# Altium footprint library Connector_PinHeader_1.27mm.PcbLib: 278 footprints (part 11 of 18)
Each footprint in its own frame and in the unit in brackets; x right, y up, seen from the top. Pads: shape width x height; smd on the part's side, far side on the other; paste and mask are expansions set on the pad; w line width, h text height; cw(c..) or ccw(c..) is an arc to the next point about the centre after c.
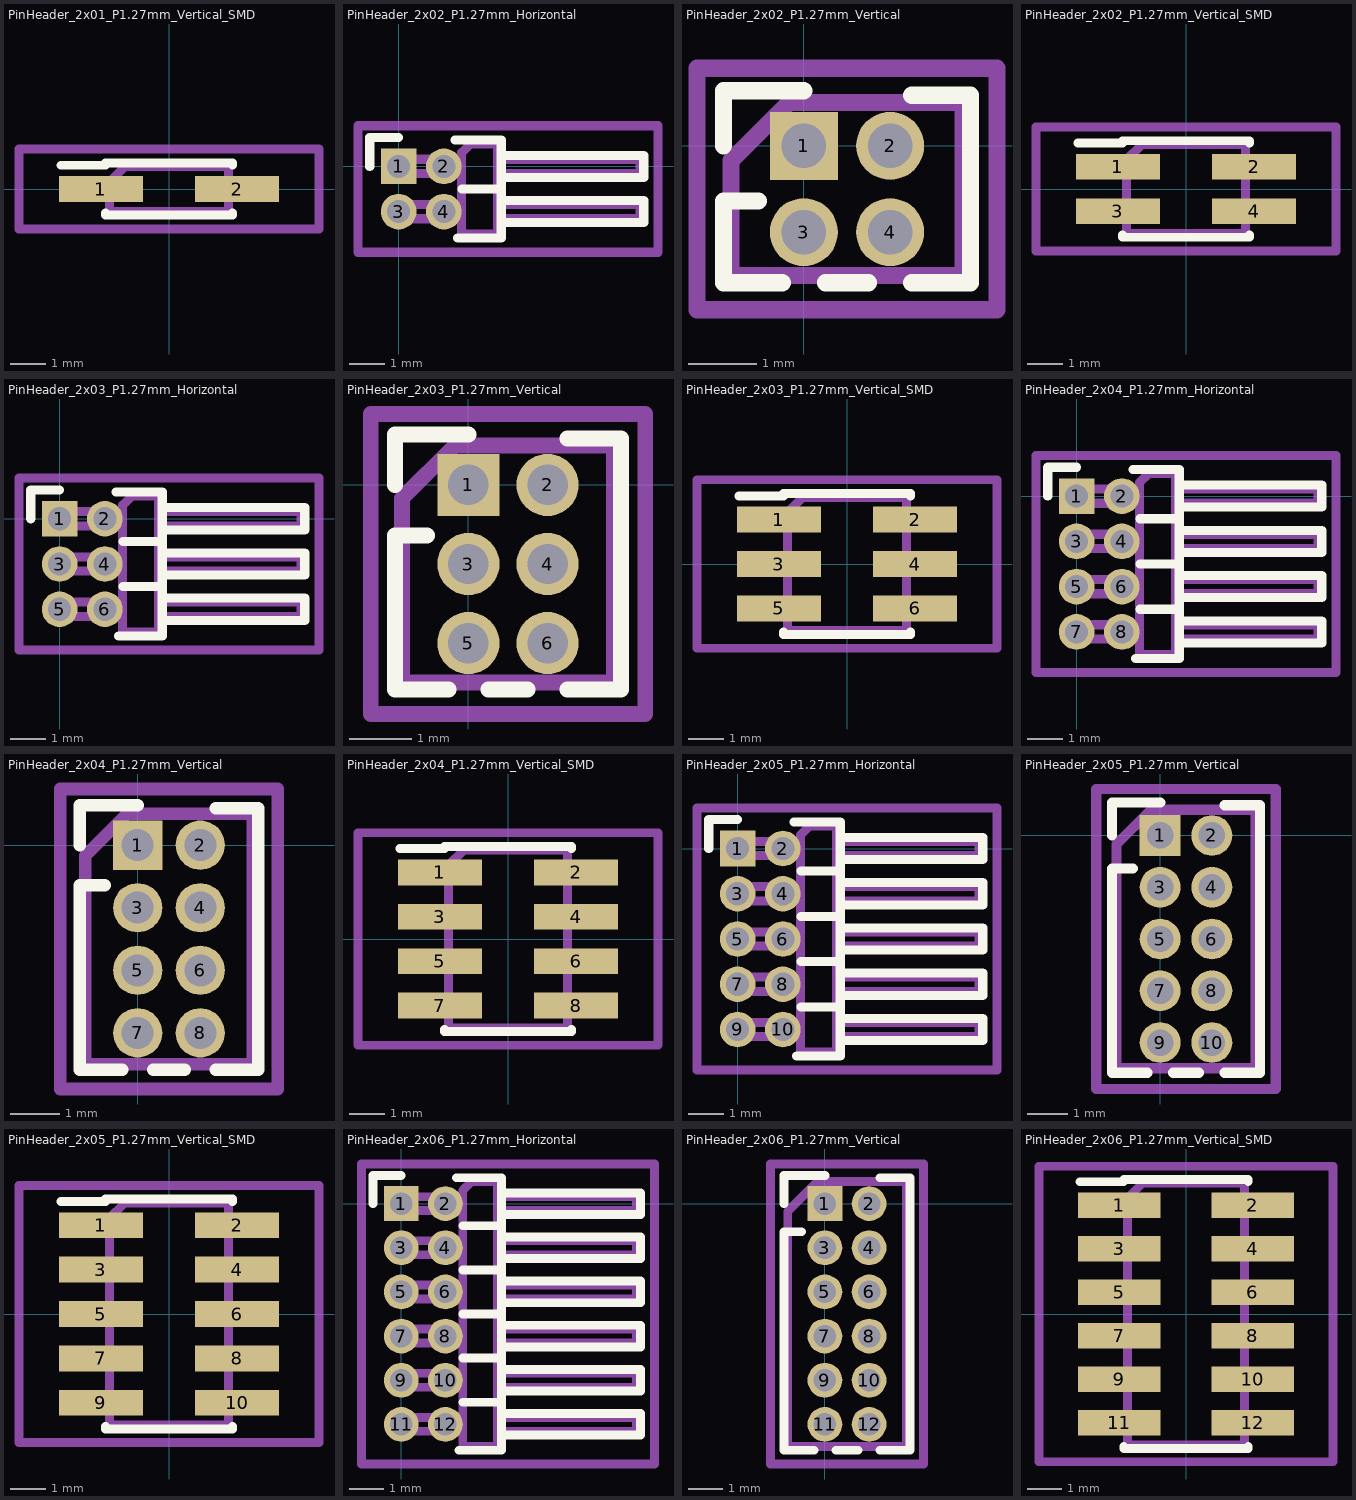
[diagram p10: the footprints below, top view; thin cyan lines are the x and y axes]

## PinHeader_2x01_P1.27mm_Vertical_SMD [mm]
pads (2):
  rect 2.4x0.74 smd: 1(-1.95,0) 2(1.95,0)
F.SilkS:
  lines w0.254: -3.09,0.68 -1.815,0.68 -1.815,0.745 1.815,0.745 1.815,0.68 ; -1.815,-0.68 -1.815,-0.745 1.815,-0.745 1.815,-0.68
Top Assembly:
  lines w0.254: -1.705,-0.2 -2.75,-0.2 -2.75,0.2 -1.705,0.2 ; 1.705,-0.2 2.75,-0.2 2.75,0.2 1.705,0.2 ; -1.705,0.2 -1.705,-0.635 1.705,-0.635 1.705,0.635 -1.27,0.635 -1.705,0.2
  text "'.Designator'" at 0.84,-4.047 h1
Top Courtyard:
  lines w0.254: -4.29,-1.14 4.29,-1.14 4.29,1.14 -4.29,1.14 -4.29,-1.14
Top Designator:
  text ".Designator" at -7.618,-0.658 h1.52

## PinHeader_2x02_P1.27mm_Horizontal [mm]
pads (4):
  rect 1x1 hole 0.65: 1(0,0)
  round 1 hole 0.65: 2(1.27,0) 3(0,-1.27) 4(1.27,-1.27)
F.SilkS:
  lines w0.254: -0.81,0 -0.81,0.81 0,0.81 ; 1.588,0.745 2.88,0.745 2.88,-2.015 1.66,-2.015 ; 1.773,-0.635 2.88,-0.635 ; 2.88,-1.58 6.88,-1.58 6.88,-0.96 2.88,-0.96 ; 2.88,-0.31 6.88,-0.31 6.88,0.31 2.88,0.31 2.88,-0.31
Top Assembly:
  lines w0.254: 1.77,-1.47 -0.2,-1.47 -0.2,-1.07 1.77,-1.07 ; 1.77,-0.2 -0.2,-0.2 -0.2,0.2 1.77,0.2 ; 2.77,-1.47 6.77,-1.47 6.77,-1.07 2.77,-1.07 ; 2.77,-0.2 6.77,-0.2 6.77,0.2 2.77,0.2 ; 1.77,-1.905 2.77,-1.905 2.77,0.635 2.02,0.635 1.77,0.385 1.77,-1.905
  text "'.Designator'" at 2.774,-3.063 h0.6
Top Courtyard:
  lines w0.254: -1.14,-2.41 7.28,-2.41 7.28,1.14 -1.14,1.14 -1.14,-2.41
Top Designator:
  text ".Designator" at -4.548,-1.233 h1.52

## PinHeader_2x02_P1.27mm_Vertical [mm]
pads (4):
  rect 1x1 hole 0.65: 1(0,0)
  round 1 hole 0.65: 2(1.27,0) 3(0,-1.27) 4(1.27,-1.27)
F.SilkS:
  lines w0.254: -1.18,0 -1.18,0.81 0,0.81 ; -0.667,-0.81 -1.18,-0.81 -1.18,-2.015 -0.318,-2.015 ; 0.318,-2.015 0.952,-2.015 ; 1.588,-2.015 2.45,-2.015 2.45,0.745 1.588,0.745
Top Assembly:
  lines w0.254: -1.07,-1.905 2.34,-1.905 2.34,0.635 -0.218,0.635 -1.07,-0.218 -1.07,-1.905
  text "'.Designator'" at 1.475,-4.682 h1
Top Courtyard:
  lines w0.254: -1.57,-2.41 2.84,-2.41 2.84,1.14 -1.57,1.14 -1.57,-2.41
Top Designator:
  text ".Designator" at -6.983,-1.293 h1.52

## PinHeader_2x02_P1.27mm_Vertical_SMD [mm]
pads (4):
  rect 2.4x0.74 smd: 1(-1.95,0.635) 2(1.95,0.635) 3(-1.95,-0.635) 4(1.95,-0.635)
F.SilkS:
  lines w0.254: -3.09,1.315 -1.815,1.315 -1.815,1.38 1.815,1.38 1.815,1.315 ; -1.815,-1.315 -1.815,-1.38 1.815,-1.38 1.815,-1.315
Top Assembly:
  lines w0.254: -1.705,-0.835 -2.75,-0.835 -2.75,-0.435 -1.705,-0.435 ; -1.705,0.435 -2.75,0.435 -2.75,0.835 -1.705,0.835 ; 1.705,-0.835 2.75,-0.835 2.75,-0.435 1.705,-0.435 ; 1.705,0.435 2.75,0.435 2.75,0.835 1.705,0.835 ; -1.705,0.835 -1.705,-1.27 1.705,-1.27 1.705,1.27 -1.27,1.27 -1.705,0.835
  text "'.Designator'" at 0.84,-4.047 h1
Top Courtyard:
  lines w0.254: -4.29,-1.77 4.29,-1.77 4.29,1.77 -4.29,1.77 -4.29,-1.77
Top Designator:
  text ".Designator" at -7.618,-0.658 h1.52

## PinHeader_2x03_P1.27mm_Horizontal [mm]
pads (6):
  rect 1x1 hole 0.65: 1(0,0)
  round 1 hole 0.65: 2(1.27,0) 3(0,-1.27) 4(1.27,-1.27) 5(0,-2.54) 6(1.27,-2.54)
F.SilkS:
  lines w0.254: -0.81,0 -0.81,0.81 0,0.81 ; 1.588,0.745 2.88,0.745 2.88,-3.285 1.66,-3.285 ; 1.773,-1.905 2.88,-1.905 ; 1.773,-0.635 2.88,-0.635 ; 2.88,-2.85 6.88,-2.85 6.88,-2.23 2.88,-2.23 ; 2.88,-1.58 6.88,-1.58 6.88,-0.96 2.88,-0.96 ; 2.88,-0.31 6.88,-0.31 6.88,0.31 2.88,0.31 2.88,-0.31
Top Assembly:
  lines w0.254: 1.77,-2.74 -0.2,-2.74 -0.2,-2.34 1.77,-2.34 ; 1.77,-1.47 -0.2,-1.47 -0.2,-1.07 1.77,-1.07 ; 1.77,-0.2 -0.2,-0.2 -0.2,0.2 1.77,0.2 ; 2.77,-2.74 6.77,-2.74 6.77,-2.34 2.77,-2.34 ; 2.77,-1.47 6.77,-1.47 6.77,-1.07 2.77,-1.07 ; 2.77,-0.2 6.77,-0.2 6.77,0.2 2.77,0.2 ; 1.77,-3.175 2.77,-3.175 2.77,0.635 2.02,0.635 1.77,0.385 1.77,-3.175
  text "'.Designator'" at 2.774,-3.698 h0.6
Top Courtyard:
  lines w0.254: -1.14,-3.68 7.28,-3.68 7.28,1.14 -1.14,1.14 -1.14,-3.68
Top Designator:
  text ".Designator" at -4.548,-1.778 h1.52

## PinHeader_2x03_P1.27mm_Vertical [mm]
pads (6):
  rect 1x1 hole 0.65: 1(0,0)
  round 1 hole 0.65: 2(1.27,0) 3(0,-1.27) 4(1.27,-1.27) 5(0,-2.54) 6(1.27,-2.54)
F.SilkS:
  lines w0.254: -1.18,0 -1.18,0.81 0,0.81 ; -0.667,-0.81 -1.18,-0.81 -1.18,-3.285 -0.318,-3.285 ; 0.318,-3.285 0.952,-3.285 ; 1.588,-3.285 2.45,-3.285 2.45,0.745 1.588,0.745
Top Assembly:
  lines w0.254: -1.07,-3.175 2.34,-3.175 2.34,0.635 -0.218,0.635 -1.07,-0.218 -1.07,-3.175
  text "'.Designator'" at 1.475,-5.317 h1
Top Courtyard:
  lines w0.254: -1.57,-3.68 2.84,-3.68 2.84,1.14 -1.57,1.14 -1.57,-3.68
Top Designator:
  text ".Designator" at -6.983,-1.928 h1.52

## PinHeader_2x03_P1.27mm_Vertical_SMD [mm]
pads (6):
  rect 2.4x0.74 smd: 1(-1.95,1.27) 2(1.95,1.27) 3(-1.95,0) 4(1.95,0) 5(-1.95,-1.27) 6(1.95,-1.27)
F.SilkS:
  lines w0.254: -3.09,1.95 -1.815,1.95 -1.815,2.015 1.815,2.015 1.815,1.95 ; -1.815,-1.95 -1.815,-2.015 1.815,-2.015 1.815,-1.95
Top Assembly:
  lines w0.254: -1.705,-1.47 -2.75,-1.47 -2.75,-1.07 -1.705,-1.07 ; -1.705,-0.2 -2.75,-0.2 -2.75,0.2 -1.705,0.2 ; -1.705,1.07 -2.75,1.07 -2.75,1.47 -1.705,1.47 ; 1.705,-1.47 2.75,-1.47 2.75,-1.07 1.705,-1.07 ; 1.705,-0.2 2.75,-0.2 2.75,0.2 1.705,0.2 ; 1.705,1.07 2.75,1.07 2.75,1.47 1.705,1.47 ; -1.705,1.47 -1.705,-1.905 1.705,-1.905 1.705,1.905 -1.27,1.905 -1.705,1.47
  text "'.Designator'" at 0.84,-4.047 h1
Top Courtyard:
  lines w0.254: -4.29,-2.41 4.29,-2.41 4.29,2.41 -4.29,2.41 -4.29,-2.41
Top Designator:
  text ".Designator" at -7.618,-0.658 h1.52

## PinHeader_2x04_P1.27mm_Horizontal [mm]
pads (8):
  rect 1x1 hole 0.65: 1(0,0)
  round 1 hole 0.65: 2(1.27,0) 3(0,-1.27) 4(1.27,-1.27) 5(0,-2.54) 6(1.27,-2.54) 7(0,-3.81) 8(1.27,-3.81)
F.SilkS:
  lines w0.254: -0.81,0 -0.81,0.81 0,0.81 ; 1.588,0.745 2.88,0.745 2.88,-4.555 1.66,-4.555 ; 1.773,-3.175 2.88,-3.175 ; 1.773,-1.905 2.88,-1.905 ; 1.773,-0.635 2.88,-0.635 ; 2.88,-4.12 6.88,-4.12 6.88,-3.5 2.88,-3.5 ; 2.88,-2.85 6.88,-2.85 6.88,-2.23 2.88,-2.23 ; 2.88,-1.58 6.88,-1.58 6.88,-0.96 2.88,-0.96 ; 2.88,-0.31 6.88,-0.31 6.88,0.31 2.88,0.31 2.88,-0.31
Top Assembly:
  lines w0.254: 1.77,-4.01 -0.2,-4.01 -0.2,-3.61 1.77,-3.61 ; 1.77,-2.74 -0.2,-2.74 -0.2,-2.34 1.77,-2.34 ; 1.77,-1.47 -0.2,-1.47 -0.2,-1.07 1.77,-1.07 ; 1.77,-0.2 -0.2,-0.2 -0.2,0.2 1.77,0.2 ; 2.77,-4.01 6.77,-4.01 6.77,-3.61 2.77,-3.61 ; 2.77,-2.74 6.77,-2.74 6.77,-2.34 2.77,-2.34 ; 2.77,-1.47 6.77,-1.47 6.77,-1.07 2.77,-1.07 ; 2.77,-0.2 6.77,-0.2 6.77,0.2 2.77,0.2 ; 1.77,-4.445 2.77,-4.445 2.77,0.635 2.02,0.635 1.77,0.385 1.77,-4.445
  text "'.Designator'" at 2.774,-4.333 h0.6
Top Courtyard:
  lines w0.254: -1.14,-4.95 7.28,-4.95 7.28,1.14 -1.14,1.14 -1.14,-4.95
Top Designator:
  text ".Designator" at -4.548,-2.413 h1.52

## PinHeader_2x04_P1.27mm_Vertical [mm]
pads (8):
  rect 1x1 hole 0.65: 1(0,0)
  round 1 hole 0.65: 2(1.27,0) 3(0,-1.27) 4(1.27,-1.27) 5(0,-2.54) 6(1.27,-2.54) 7(0,-3.81) 8(1.27,-3.81)
F.SilkS:
  lines w0.254: -1.18,0 -1.18,0.81 0,0.81 ; -0.667,-0.81 -1.18,-0.81 -1.18,-4.555 -0.318,-4.555 ; 0.318,-4.555 0.952,-4.555 ; 1.588,-4.555 2.45,-4.555 2.45,0.745 1.588,0.745
Top Assembly:
  lines w0.254: -1.07,-4.445 2.34,-4.445 2.34,0.635 -0.218,0.635 -1.07,-0.218 -1.07,-4.445
  text "'.Designator'" at 1.475,-5.952 h1
Top Courtyard:
  lines w0.254: -1.57,-4.95 2.84,-4.95 2.84,1.14 -1.57,1.14 -1.57,-4.95
Top Designator:
  text ".Designator" at -6.983,-2.563 h1.52

## PinHeader_2x04_P1.27mm_Vertical_SMD [mm]
pads (8):
  rect 2.4x0.74 smd: 1(-1.95,1.905) 2(1.95,1.905) 3(-1.95,0.635) 4(1.95,0.635) 5(-1.95,-0.635) 6(1.95,-0.635) 7(-1.95,-1.905) 8(1.95,-1.905)
F.SilkS:
  lines w0.254: -3.09,2.585 -1.815,2.585 -1.815,2.65 1.815,2.65 1.815,2.585 ; -1.815,-2.585 -1.815,-2.65 1.815,-2.65 1.815,-2.585
Top Assembly:
  lines w0.254: -1.705,-2.105 -2.75,-2.105 -2.75,-1.705 -1.705,-1.705 ; -1.705,-0.835 -2.75,-0.835 -2.75,-0.435 -1.705,-0.435 ; -1.705,0.435 -2.75,0.435 -2.75,0.835 -1.705,0.835 ; -1.705,1.705 -2.75,1.705 -2.75,2.105 -1.705,2.105 ; 1.705,-2.105 2.75,-2.105 2.75,-1.705 1.705,-1.705 ; 1.705,-0.835 2.75,-0.835 2.75,-0.435 1.705,-0.435 ; 1.705,0.435 2.75,0.435 2.75,0.835 1.705,0.835 ; 1.705,1.705 2.75,1.705 2.75,2.105 1.705,2.105 ; -1.705,2.105 -1.705,-2.54 1.705,-2.54 1.705,2.54 -1.27,2.54 -1.705,2.105
  text "'.Designator'" at 0.84,-4.047 h1
Top Courtyard:
  lines w0.254: -4.29,-3.04 4.29,-3.04 4.29,3.04 -4.29,3.04 -4.29,-3.04
Top Designator:
  text ".Designator" at -7.618,-0.658 h1.52

## PinHeader_2x05_P1.27mm_Horizontal [mm]
pads (10):
  rect 1x1 hole 0.65: 1(0,0)
  round 1 hole 0.65: 2(1.27,0) 3(0,-1.27) 4(1.27,-1.27) 5(0,-2.54) 6(1.27,-2.54) 7(0,-3.81) 8(1.27,-3.81) 9(0,-5.08) 10(1.27,-5.08)
F.SilkS:
  lines w0.254: -0.81,0 -0.81,0.81 0,0.81 ; 1.588,0.745 2.88,0.745 2.88,-5.825 1.66,-5.825 ; 1.773,-4.445 2.88,-4.445 ; 1.773,-3.175 2.88,-3.175 ; 1.773,-1.905 2.88,-1.905 ; 1.773,-0.635 2.88,-0.635 ; 2.88,-5.39 6.88,-5.39 6.88,-4.77 2.88,-4.77 ; 2.88,-4.12 6.88,-4.12 6.88,-3.5 2.88,-3.5 ; 2.88,-2.85 6.88,-2.85 6.88,-2.23 2.88,-2.23 ; 2.88,-1.58 6.88,-1.58 6.88,-0.96 2.88,-0.96 ; 2.88,-0.31 6.88,-0.31 6.88,0.31 2.88,0.31 2.88,-0.31
Top Assembly:
  lines w0.254: 1.77,-5.28 -0.2,-5.28 -0.2,-4.88 1.77,-4.88 ; 1.77,-4.01 -0.2,-4.01 -0.2,-3.61 1.77,-3.61 ; 1.77,-2.74 -0.2,-2.74 -0.2,-2.34 1.77,-2.34 ; 1.77,-1.47 -0.2,-1.47 -0.2,-1.07 1.77,-1.07 ; 1.77,-0.2 -0.2,-0.2 -0.2,0.2 1.77,0.2 ; 2.77,-5.28 6.77,-5.28 6.77,-4.88 2.77,-4.88 ; 2.77,-4.01 6.77,-4.01 6.77,-3.61 2.77,-3.61 ; 2.77,-2.74 6.77,-2.74 6.77,-2.34 2.77,-2.34 ; 2.77,-1.47 6.77,-1.47 6.77,-1.07 2.77,-1.07 ; 2.77,-0.2 6.77,-0.2 6.77,0.2 2.77,0.2 ; 1.77,-5.715 2.77,-5.715 2.77,0.635 2.02,0.635 1.77,0.385 1.77,-5.715
  text "'.Designator'" at 2.774,-4.968 h0.6
Top Courtyard:
  lines w0.254: -1.14,-6.22 7.28,-6.22 7.28,1.14 -1.14,1.14 -1.14,-6.22
Top Designator:
  text ".Designator" at -4.548,-3.048 h1.52

## PinHeader_2x05_P1.27mm_Vertical [mm]
pads (10):
  rect 1x1 hole 0.65: 1(0,0)
  round 1 hole 0.65: 2(1.27,0) 3(0,-1.27) 4(1.27,-1.27) 5(0,-2.54) 6(1.27,-2.54) 7(0,-3.81) 8(1.27,-3.81) 9(0,-5.08) 10(1.27,-5.08)
F.SilkS:
  lines w0.254: -1.18,0 -1.18,0.81 0,0.81 ; -0.667,-0.81 -1.18,-0.81 -1.18,-5.825 -0.318,-5.825 ; 0.318,-5.825 0.952,-5.825 ; 1.588,-5.825 2.45,-5.825 2.45,0.745 1.588,0.745
Top Assembly:
  lines w0.254: -1.07,-5.715 2.34,-5.715 2.34,0.635 -0.218,0.635 -1.07,-0.218 -1.07,-5.715
  text "'.Designator'" at 1.475,-6.587 h1
Top Courtyard:
  lines w0.254: -1.57,-6.22 2.84,-6.22 2.84,1.14 -1.57,1.14 -1.57,-6.22
Top Designator:
  text ".Designator" at -6.983,-3.198 h1.52

## PinHeader_2x05_P1.27mm_Vertical_SMD [mm]
pads (10):
  rect 2.4x0.74 smd: 1(-1.95,2.54) 2(1.95,2.54) 3(-1.95,1.27) 4(1.95,1.27) 5(-1.95,0) 6(1.95,0) 7(-1.95,-1.27) 8(1.95,-1.27) 9(-1.95,-2.54) 10(1.95,-2.54)
F.SilkS:
  lines w0.254: -3.09,3.22 -1.815,3.22 -1.815,3.285 1.815,3.285 1.815,3.22 ; -1.815,-3.22 -1.815,-3.285 1.815,-3.285 1.815,-3.22
Top Assembly:
  lines w0.254: -1.705,-2.74 -2.75,-2.74 -2.75,-2.34 -1.705,-2.34 ; -1.705,-1.47 -2.75,-1.47 -2.75,-1.07 -1.705,-1.07 ; -1.705,-0.2 -2.75,-0.2 -2.75,0.2 -1.705,0.2 ; -1.705,1.07 -2.75,1.07 -2.75,1.47 -1.705,1.47 ; -1.705,2.34 -2.75,2.34 -2.75,2.74 -1.705,2.74 ; 1.705,-2.74 2.75,-2.74 2.75,-2.34 1.705,-2.34 ; 1.705,-1.47 2.75,-1.47 2.75,-1.07 1.705,-1.07 ; 1.705,-0.2 2.75,-0.2 2.75,0.2 1.705,0.2 ; 1.705,1.07 2.75,1.07 2.75,1.47 1.705,1.47 ; 1.705,2.34 2.75,2.34 2.75,2.74 1.705,2.74 ; -1.705,2.74 -1.705,-3.175 1.705,-3.175 1.705,3.175 -1.27,3.175 -1.705,2.74
  text "'.Designator'" at 0.84,-4.047 h1
Top Courtyard:
  lines w0.254: -4.29,-3.68 4.29,-3.68 4.29,3.68 -4.29,3.68 -4.29,-3.68
Top Designator:
  text ".Designator" at -7.618,-0.658 h1.52

## PinHeader_2x06_P1.27mm_Horizontal [mm]
pads (12):
  rect 1x1 hole 0.65: 1(0,0)
  round 1 hole 0.65: 2(1.27,0) 3(0,-1.27) 4(1.27,-1.27) 5(0,-2.54) 6(1.27,-2.54) 7(0,-3.81) 8(1.27,-3.81) 9(0,-5.08) 10(1.27,-5.08) 11(0,-6.35) 12(1.27,-6.35)
F.SilkS:
  lines w0.254: -0.81,0 -0.81,0.81 0,0.81 ; 1.588,0.745 2.88,0.745 2.88,-7.095 1.66,-7.095 ; 1.773,-5.715 2.88,-5.715 ; 1.773,-4.445 2.88,-4.445 ; 1.773,-3.175 2.88,-3.175 ; 1.773,-1.905 2.88,-1.905 ; 1.773,-0.635 2.88,-0.635 ; 2.88,-6.66 6.88,-6.66 6.88,-6.04 2.88,-6.04 ; 2.88,-5.39 6.88,-5.39 6.88,-4.77 2.88,-4.77 ; 2.88,-4.12 6.88,-4.12 6.88,-3.5 2.88,-3.5 ; 2.88,-2.85 6.88,-2.85 6.88,-2.23 2.88,-2.23 ; 2.88,-1.58 6.88,-1.58 6.88,-0.96 2.88,-0.96 ; 2.88,-0.31 6.88,-0.31 6.88,0.31 2.88,0.31 2.88,-0.31
Top Assembly:
  lines w0.254: 1.77,-6.55 -0.2,-6.55 -0.2,-6.15 1.77,-6.15 ; 1.77,-5.28 -0.2,-5.28 -0.2,-4.88 1.77,-4.88 ; 1.77,-4.01 -0.2,-4.01 -0.2,-3.61 1.77,-3.61 ; 1.77,-2.74 -0.2,-2.74 -0.2,-2.34 1.77,-2.34 ; 1.77,-1.47 -0.2,-1.47 -0.2,-1.07 1.77,-1.07 ; 1.77,-0.2 -0.2,-0.2 -0.2,0.2 1.77,0.2 ; 2.77,-6.55 6.77,-6.55 6.77,-6.15 2.77,-6.15 ; 2.77,-5.28 6.77,-5.28 6.77,-4.88 2.77,-4.88 ; 2.77,-4.01 6.77,-4.01 6.77,-3.61 2.77,-3.61 ; 2.77,-2.74 6.77,-2.74 6.77,-2.34 2.77,-2.34 ; 2.77,-1.47 6.77,-1.47 6.77,-1.07 2.77,-1.07 ; 2.77,-0.2 6.77,-0.2 6.77,0.2 2.77,0.2 ; 1.77,-6.985 2.77,-6.985 2.77,0.635 2.02,0.635 1.77,0.385 1.77,-6.985
  text "'.Designator'" at 2.774,-5.603 h0.6
Top Courtyard:
  lines w0.254: -1.14,-7.49 7.28,-7.49 7.28,1.14 -1.14,1.14 -1.14,-7.49
Top Designator:
  text ".Designator" at -4.548,-3.683 h1.52

## PinHeader_2x06_P1.27mm_Vertical [mm]
pads (12):
  rect 1x1 hole 0.65: 1(0,0)
  round 1 hole 0.65: 2(1.27,0) 3(0,-1.27) 4(1.27,-1.27) 5(0,-2.54) 6(1.27,-2.54) 7(0,-3.81) 8(1.27,-3.81) 9(0,-5.08) 10(1.27,-5.08) 11(0,-6.35) 12(1.27,-6.35)
F.SilkS:
  lines w0.254: -1.18,0 -1.18,0.81 0,0.81 ; -0.667,-0.81 -1.18,-0.81 -1.18,-7.095 -0.318,-7.095 ; 0.318,-7.095 0.952,-7.095 ; 1.588,-7.095 2.45,-7.095 2.45,0.745 1.588,0.745
Top Assembly:
  lines w0.254: -1.07,-6.985 2.34,-6.985 2.34,0.635 -0.218,0.635 -1.07,-0.218 -1.07,-6.985
  text "'.Designator'" at 1.475,-7.222 h1
Top Courtyard:
  lines w0.254: -1.57,-7.49 2.84,-7.49 2.84,1.14 -1.57,1.14 -1.57,-7.49
Top Designator:
  text ".Designator" at -6.983,-3.683 h1.52

## PinHeader_2x06_P1.27mm_Vertical_SMD [mm]
pads (12):
  rect 2.4x0.74 smd: 1(-1.95,3.175) 2(1.95,3.175) 3(-1.95,1.905) 4(1.95,1.905) 5(-1.95,0.635) 6(1.95,0.635) 7(-1.95,-0.635) 8(1.95,-0.635) 9(-1.95,-1.905) 10(1.95,-1.905) 11(-1.95,-3.175) 12(1.95,-3.175)
F.SilkS:
  lines w0.254: -3.09,3.855 -1.815,3.855 -1.815,3.92 1.815,3.92 1.815,3.855 ; -1.815,-3.855 -1.815,-3.92 1.815,-3.92 1.815,-3.855
Top Assembly:
  lines w0.254: -1.705,-3.375 -2.75,-3.375 -2.75,-2.975 -1.705,-2.975 ; -1.705,-2.105 -2.75,-2.105 -2.75,-1.705 -1.705,-1.705 ; -1.705,-0.835 -2.75,-0.835 -2.75,-0.435 -1.705,-0.435 ; -1.705,0.435 -2.75,0.435 -2.75,0.835 -1.705,0.835 ; -1.705,1.705 -2.75,1.705 -2.75,2.105 -1.705,2.105 ; -1.705,2.975 -2.75,2.975 -2.75,3.375 -1.705,3.375 ; 1.705,-3.375 2.75,-3.375 2.75,-2.975 1.705,-2.975 ; 1.705,-2.105 2.75,-2.105 2.75,-1.705 1.705,-1.705 ; 1.705,-0.835 2.75,-0.835 2.75,-0.435 1.705,-0.435 ; 1.705,0.435 2.75,0.435 2.75,0.835 1.705,0.835 ; 1.705,1.705 2.75,1.705 2.75,2.105 1.705,2.105 ; 1.705,2.975 2.75,2.975 2.75,3.375 1.705,3.375 ; -1.705,3.375 -1.705,-3.81 1.705,-3.81 1.705,3.81 -1.27,3.81 -1.705,3.375
  text "'.Designator'" at 0.84,-4.047 h1
Top Courtyard:
  lines w0.254: -4.29,-4.31 4.29,-4.31 4.29,4.31 -4.29,4.31 -4.29,-4.31
Top Designator:
  text ".Designator" at -7.618,-0.508 h1.52